# EAGLE library part CAT24C2256 (library parts)
256kb Serial CMOS EEPROM, I2C
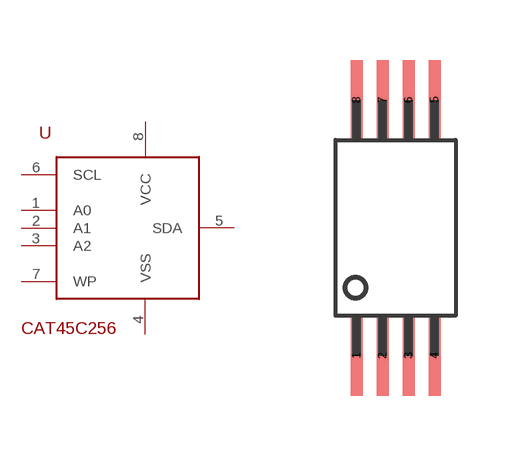
[diagram p8: symbol with the pads of TSSOP-8; footprint TSSOP-8]

Designator prefix -

## CAT24C2256Y  [TSSOP-8]
1  A0
2  A1
3  A2
4  VSS
5  SDA
6  SCL
7  WP
8  VCC

## Footprint TSSOP-8 (pad centres in mm)
smd 0.3 x 2: 1 -0.975,-3.2; 2 -0.325,-3.2; 3 0.325,-3.2; 4 0.975,-3.2; 5 0.975,3.2; 6 0.325,3.2; 7 -0.325,3.2; 8 -0.975,3.2